# Altium footprint library F1_MODULE.PcbLib: 18 footprints (part 1 of 2)
Each footprint in its own frame and in the unit in brackets; x right, y up, seen from the top. Pads: shape width x height; smd on the part's side, far side on the other; paste and mask are expansions set on the pad; w line width, h text height; cw(c..) or ccw(c..) is an arc to the next point about the centre after c.
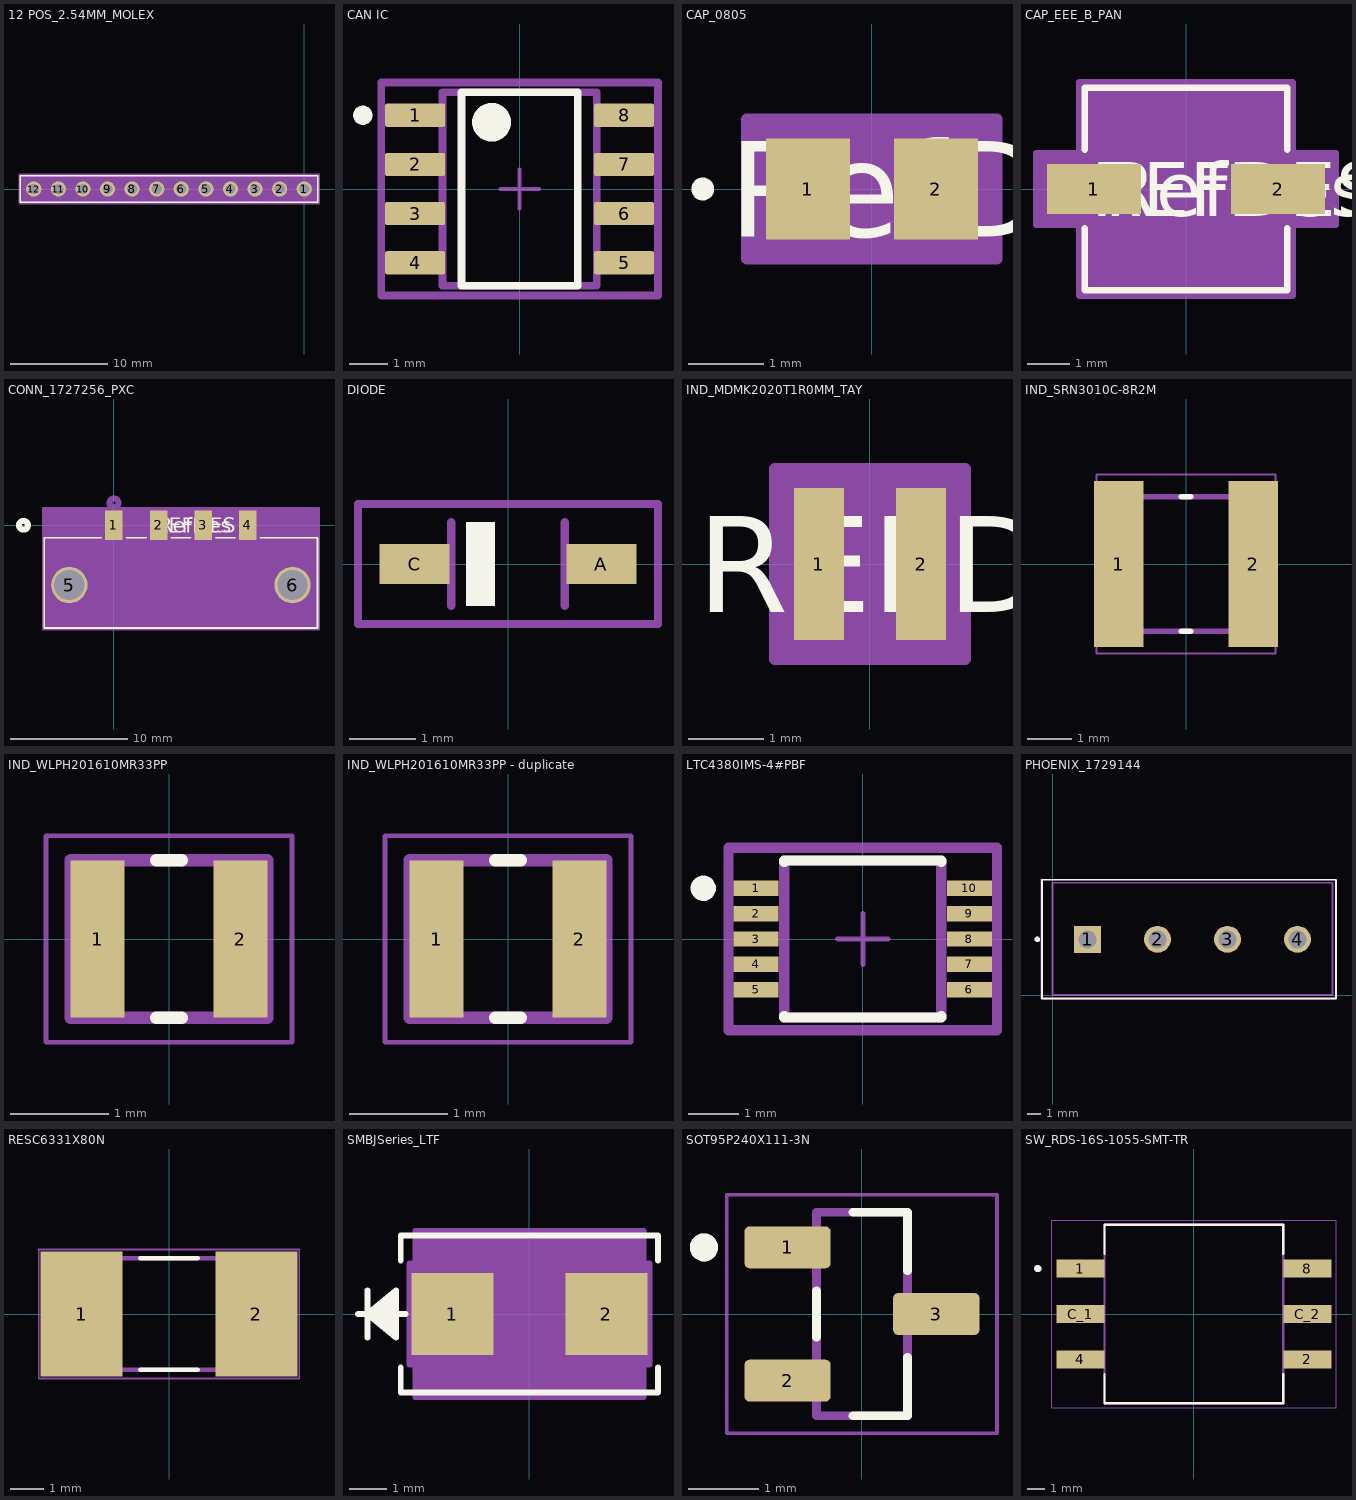
[diagram p0: the footprints below, top view; thin cyan lines are the x and y axes]

## 12 POS_2.54MM_MOLEX [mil]
pads (12):
  round 62 / inner round 60 / far side round 62 hole 42 paste-99999 mask+0: 1(0,0) 2(-100,0) 3(-200,0) 4(-300,0) 5(-400,0) 6(-500,0) 7(-600,0) 8(-700,0) 9(-800,0) 10(-900,0) 11(-1000,0) 12(-1100,0)
Top Overlay:
  lines w6: -1155,-54 -1155,54 55,54 55,-54 -1155,-54
Mechanical 13:
  circle w20: c0,0 r15
  lines w1: -1150,-49 -1150,49 50,49 50,-49 -1150,-49
  text "RefDes2" at -637.5,-25 h50
Mechanical 15:
  region: 60,59 -1160,59 -1160,-59 60,-59
  lines w6: -1160,-59 60,-59 60,59 -1160,59 -1160,-59
3D body "022284125.stp": height 385.5, standoff -119.5, extent -1150,-49 50,49

## CAN IC [mm]
pads (8):
  rrect17% 1.55x0.6 smd paste+0 mask+0: 1(-2.7,1.905) 2(-2.7,0.635) 3(-2.7,-0.635) 4(-2.7,-1.905) 5(2.7,-1.905) 6(2.7,-0.635) 7(2.7,0.635) 8(2.7,1.905)
Top Overlay:
  circle w0.25: c-4.05,1.905 r0.125
  circle w0.5: c-0.725,1.725 r0.25
  lines w0.2: -1.5,-2.5 1.5,-2.5 1.5,2.5 -1.5,2.5 -1.5,-2.5
Top 3D Body:
  lines w0.2: -1.99,-2.5 1.99,-2.5 1.99,2.5 -1.99,2.5 -1.99,-2.5
Top Courtyard:
  lines w0.2: -3.575,-2.75 3.575,-2.75 3.575,2.75 -3.575,2.75 -3.575,-2.75
Top Assembly:
  lines w0.2: -3.575,-2.75 3.575,-2.75 3.575,2.75 -3.575,2.75 -3.575,-2.75
  text ".Designator" at 0,0.188 h1
Top Component Center:
  lines w0.1: -0.5,0 0.5,0 ; 0,-0.5 0,0.5
3D body "IC_Texas_Instruments_ISO7220ADR_eec.STEP": height 0.25, standoff 0, extent -3.575,-2.75 3.575,2.75

## CAP_0805 [mil]
pads (2):
  rect 44x53 smd paste+0 mask+0: 1(-33.5,0) 2(33.5,0)
Top Overlay:
  circle w6: c-88.5,0 r3
  text "RefDes" at -75,-25 h50
Mechanical 13:
  circle w0: c-28.5,0 r3
  lines w1: -41.5,-26.5 -41.5,26.5 ; -41.5,-26.5 41.5,-26.5 ; -41.5,-26.5 -11.5,-26.5 -11.5,26.5 -41.5,26.5 ; -41.5,-26.5 -41.5,26.5 ; -41.5,26.5 41.5,26.5 ; 41.5,-26.5 41.5,26.5 ; 41.5,-26.5 41.5,26.5 ; 41.5,-26.5 11.5,-26.5 11.5,26.5 41.5,26.5
  text "RefDes2" at -87.5,-25 h50
Mechanical 15:
  region: 65.5,-36.5 -65.5,-36.5 -65.5,36.5 65.5,36.5
  lines w6: -65.5,-36.5 65.5,-36.5 65.5,36.5 -65.5,36.5 -65.5,-36.5
3D body "CAP_QMK212B7103KG-T_TAY.step": height 52.99, standoff 0, extent -41.5,-26.5 41.5,26.5

## CAP_EEE_B_PAN [mil]
pads (2):
  rect 87x46 smd paste+0 mask+0: 1(-85,0) 2(85,0)
Top Overlay:
  lines w6: -93.5,-36.1 -93.5,-93.5 93.5,-93.5 93.5,-36.1 ; -93.5,36.1 -93.5,93.5 93.5,93.5 93.5,36.1
  text "RefDes" at -75,-25 h50
  text "REFDES" at -87.5,-25 h50
Mechanical 13:
  lines w1: -88.5,-44.25 -44.25,-88.5 ; -88.5,44.25 -44.25,88.5 ; -88.5,-88.5 88.5,-88.5 88.5,88.5 -88.5,88.5 -88.5,-88.5
  text "RefDes2" at -87.5,-25 h50
Mechanical 15:
  region: -98.5,-33 -138.5,-33 -138.5,33 -98.5,33 -98.5,98.5 98.5,98.5 98.5,33 138.5,33 138.5,-33 98.5,-33 98.5,-98.5 -98.5,-98.5
  lines w6: -138.5,-33 -138.5,33 -98.5,33 -98.5,98.5 98.5,98.5 98.5,33 138.5,33 138.5,-33 98.5,-33 98.5,-98.5 -98.5,-98.5 -98.5,-33 -138.5,-33
3D body "CAP_EEE_B_PAN.step": height 219.09, standoff 0, extent -108.5,-88.5 108.5,88.5

## CONN_1727256_PXC [mil]
pads (6):
  rect 59x98 smd paste+0 mask+0: 1(0,0) 2(150,0) 3(300,0) 4(450,0)
  round 122 / inner round 60 / far side round 122 hole 102 paste-99999 mask-61: 5(-150,-200.79) 6(600,-200.79)
Top Overlay:
  circle w20: c-304,0 r15
  lines w6: -42.6,-42.24 -234,-42.24 -234,-345.24 684,-345.24 684,-42.24 492.6,-42.24 ; 42.6,-42.24 107.4,-42.24 ; 192.6,-42.24 257.4,-42.24 ; 342.6,-42.24 407.4,-42.24
  text "RefDes" at 150,-25 h50
  text "REFDES" at 137.5,-25 h50
Bottom Overlay:
  circle w20: c-304,0 r15
Mechanical 13:
  circle w20: c0,75 r15
  lines w1: -229,-340.24 679,-340.24 679,-47.24 -229,-47.24 -229,-340.24
  text "RefDes2" at 137.5,-25 h50
Mechanical 15:
  region: 689,59 -239,59 -239,-350.24 689,-350.24
  lines w6: -239,-350.24 -239,59 689,59 689,-350.24 -239,-350.24
3D body "1727256.stp": height 362.7, standoff -124.96, extent -227.56,-340 687.57,47.8

## DIODE [mm]
pads (2):
  rect 1.05x0.6 smd: A(1.4,0) C(-1.4,0)
Top Overlay:
  region: -0.2,-0.625 -0.625,-0.625 -0.625,0.625 -0.2,0.625
Mechanical 13:
  lines w0.127: -0.85,-0.625 -0.85,0.625 ; 0.85,-0.625 0.85,0.625
Mechanical 15:
  lines w0.127: -2.25,-0.9 2.25,-0.9 2.25,0.9 -2.25,0.9 -2.25,-0.9
3D body "step_temp.STEP": height 0.91, standoff 0.01, extent -1.25,-0.625 1.25,0.625

## IND_MDMK2020T1R0MM_TAY [mil]
pads (2):
  rect 26x79 smd paste+0 mask+0: 1(-26.57,0) 2(26.57,0)
Top Overlay:
  text "REFDES" at -90,-25 h50
Mechanical 13:
  lines w1: -39.5,-19.75 -39.5,19.75 -19.75,39.5 19.75,39.5 39.5,19.75 39.5,-19.75 19.75,-39.5 -19.75,-39.5 -39.5,-19.75
  text "*" at -32,-50 h50
  text "RefDes2" at -87.5,-25 h50
Mechanical 15:
  region: 49.57,-49.5 -49.57,-49.5 -49.57,49.5 49.57,49.5
  lines w6: -49.57,-49.5 -49.57,49.5 49.57,49.5 49.57,-49.5 -49.57,-49.5

## IND_SRN3010C-8R2M [mm]
height 1
pads (2):
  rect 1.1x3.7 smd: 1(-1.5,0) 2(1.5,0)
Top Overlay:
  lines w0.127: -0.1,-1.5 0.1,-1.5 ; -0.1,1.5 0.1,1.5
Mechanical 13:
  lines w0.127: -1.5,-1.5 1.5,-1.5 1.5,1.5 -1.5,1.5 -1.5,-1.5
Mechanical 15:
  lines w0.05: -2,-2 2,-2 2,2 -2,2 -2,-2
3D body "step_temp.STEP": height 1, standoff 0, extent -1.5,-1.5 1.5,1.5

## IND_WLPH201610MR33PP [mm]
height 1
pads (2):
  rect 0.55x1.6 smd paste+0 mask+0.102: 1(-0.725,0) 2(0.725,0)
Top Overlay:
  lines w0.127: -0.13,-0.8 0.13,-0.8 ; -0.13,0.8 0.13,0.8
Mechanical 13:
  lines w0.127: -1,-0.8 -1,0.8 1,0.8 1,-0.8 -1,-0.8
Mechanical 15:
  lines w0.05: -1.25,-1.05 -1.25,1.05 1.25,1.05 1.25,-1.05 -1.25,-1.05
3D body "LQW2BASR10G00L.STEP": height 1.52, standoff 0, extent -1.045,-0.765 1.045,0.765

## IND_WLPH201610MR33PP - duplicate [mm]
height 1
pads (2):
  rect 0.55x1.6 smd paste+0 mask+0.102: 1(-0.725,0) 2(0.725,0)
Top Overlay:
  lines w0.127: -0.13,-0.8 0.13,-0.8 ; -0.13,0.8 0.13,0.8
Mechanical 13:
  lines w0.127: -1,-0.8 1,-0.8 1,0.8 -1,0.8 -1,-0.8
Mechanical 15:
  lines w0.05: -1.25,-1.05 1.25,-1.05 1.25,1.05 -1.25,1.05 -1.25,-1.05
3D body "LQW2BASR10G00L.STEP": height 1.52, standoff 0, extent -1.045,-0.765 1.045,0.765

## LTC4380IMS-4#PBF [mm]
pads (10):
  rect 0.889x0.305 smd paste+0 mask+0: 1(-2.107,1) 2(-2.107,0.5) 3(-2.107,0) 4(-2.107,-0.5) 5(-2.107,-1) 6(2.107,-1) 7(2.107,-0.5) 8(2.107,0) 9(2.107,0.5) 10(2.107,1)
Top Overlay:
  circle w0.25: c-3.151,1.002 r0.125
  lines w0.2: -1.551,-1.528 -1.551,-1.551 1.551,-1.551 1.551,-1.528 ; -1.551,1.528 -1.551,1.551 1.551,1.551 1.551,1.528
Top 3D Body:
  lines w0.2: -1.551,-1.551 -1.551,1.551 1.551,1.551 1.551,-1.551 -1.551,-1.551
Top Courtyard:
  lines w0.2: -2.652,-1.803 -2.652,1.803 2.652,1.803 2.652,-1.803 -2.652,-1.803
Top Assembly:
  lines w0.2: -2.652,-1.803 -2.652,1.803 2.652,1.803 2.652,-1.803 -2.652,-1.803
  text ".Designator" at 0,0.188 h1
Top Component Center:
  lines w0.1: -0.5,0 0.5,0 ; 0,-0.5 0,0.5
3D body "IC_Analog_Devices_LTC4380HMS-4#PBF_eec.STEP": height 0.25, standoff 0, extent -2.652,-1.803 2.652,1.803

## PHOENIX_1729144 [mm]
pads (4):
  rect 1.95x1.95 / inner round 1.95 / far side rect 1.95x1.95 hole 1.3: 1(2.54,4.05)
  round 1.95 hole 1.3: 2(7.62,4.05) 3(12.7,4.05) 4(17.78,4.05)
Top Overlay:
  circle w0.2: c-1.1,4.05 r0.1
  lines w0.127: -0.762,-0.254 20.574,-0.254 20.574,8.382 -0.762,8.382 -0.762,-0.254
Mechanical 13:
  circle w0.2: c-1.1,4.05 r0.1
  lines w0.127: 0,0 20.32,0 20.32,8.15 0,8.15 0,0
Mechanical 15:
  lines w0.05: -0.82,-0.25 20.57,-0.25 20.57,8.4 -0.82,8.4 -0.82,-0.25
3D body "pxc_1729144_10_00_MKDSN-1-5-4-5-08_3D.stp": height 9.97, standoff -3.5, extent -0.57,0 20.315,8.15

## RESC6331X80N [mm]
pads (2):
  rect 2.44x3.7 smd: 1(-2.59,0) 2(2.59,0)
Top Overlay:
  lines w0.127: -0.85,-1.65 0.85,-1.65 ; -0.85,1.65 0.85,1.65
Mechanical 13:
  lines w0.127: -3.25,-1.65 -3.25,1.65 3.25,1.65 3.25,-1.65 -3.25,-1.65
Mechanical 15:
  lines w0.05: -3.858,-1.908 -3.858,1.908 3.858,1.908 3.858,-1.908 -3.858,-1.908
3D body "BO_CR2512.step": height 0.76, standoff 0, extent -3.378,-1.651 3.124,1.651

## SMBJSeries_LTF [mil]
pads (2):
  rect 86x86 smd paste+0 mask+0: 1(-80.87,0) 2(80.87,0)
Top Overlay:
  lines w6: -180,0 -130,0 ; -170,-25 -170,25 ; -140,-20 -170,0 ; -140,-15 -170,0 ; -140,-10 -170,0 ; -140,-5 -170,0 ; -140,5 -170,0 ; -140,10 -170,0 ; -140,15 -170,0 ; -140,20 -170,0 ; -135,-56.1 -135,-82.5 135,-82.5 135,-56.1 ; -135,56.1 -135,82.5 135,82.5 135,56.1 ; -170,0 -140,25 -140,-25 -170,0
Mechanical 13:
  lines w1: -180,0 -130,0 ; -170,-25 -170,25 ; -140,-20 -170,0 ; -140,-15 -170,0 ; -140,-10 -170,0 ; -140,-5 -170,0 ; -140,5 -170,0 ; -140,10 -170,0 ; -140,15 -170,0 ; -140,20 -170,0 ; -170,0 -140,25 -140,-25 -170,0 ; -110,-77.5 110,-77.5 110,77.5 -110,77.5 -110,-77.5
  text "RefDes2" at -87.5,-25 h50
Mechanical 15:
  region: -120,-53 -126,-53 -126,53 -120,53 -120,87.5 120,87.5 120,53 126,53 126,-53 120,-53 120,-87.5 -120,-87.5
  lines w6: -126,-53 -126,53 -120,53 -120,87.5 120,87.5 120,53 126,53 126,-53 120,-53 120,-87.5 -120,-87.5 -120,-53 -126,-53
3D body "SMBJSeries_LTF.step": height 97.99, standoff 0, extent -110,-77.48 110,77.48

## SOT95P240X111-3N [mm]
height 1.11
pads (3):
  rrect25% 1.23x0.6 smd: 1(-1.06,0.95) 2(-1.06,-0.95) 3(1.06,0)
Top Overlay:
  circle w0.2: c-2.25,0.95 r0.1
  lines w0.127: -0.65,-0.33 -0.65,0.33 ; -0.125,-1.45 0.65,-1.45 0.65,-0.62 ; -0.125,1.45 0.65,1.45 0.65,0.62
Mechanical 13:
  circle w0.2: c-2.25,0.95 r0.1
  lines w0.127: -0.65,-1.45 0.65,-1.45 0.65,1.45 -0.65,1.45 -0.65,-1.45
Mechanical 15:
  lines w0.05: -1.925,-1.7 -1.925,1.7 1.925,1.7 1.925,-1.7 -1.925,-1.7
3D body "step_temp.STEP": height 1.11, standoff 0, extent -1.2,-1.45 1.2,1.45

## SW_RDS-16S-1055-SMT-TR [mm]
height 5.8
pads (6):
  rect 2.7x1 smd: 1(-6.35,2.54) 2(6.35,-2.54) 4(-6.35,-2.54) 8(6.35,2.54) C_1(-6.35,0) C_2(6.35,0)
Top Overlay:
  circle w0.2: c-8.735,2.54 r0.1
  lines w0.127: -5,-3.36 -5,-5 5,-5 5,-3.36 ; -5,3.36 -5,5 5,5 5,3.36
Mechanical 13:
  circle w0.2: c-8.735,2.54 r0.1
  lines w0.127: -5,-5 -5,5 5,5 5,-5 -5,-5
Mechanical 15:
  lines w0.05: -7.95,-5.25 -7.95,5.25 7.95,5.25 7.95,-5.25 -7.95,-5.25
3D body "step_temp.STEP": height 5.57, standoff -0.04, extent -7.073,-4.95 7.127,5